# Altium integrated library TPM-SimonK_INTLIB.IntLib: 68 symbols (part 2 of 2)
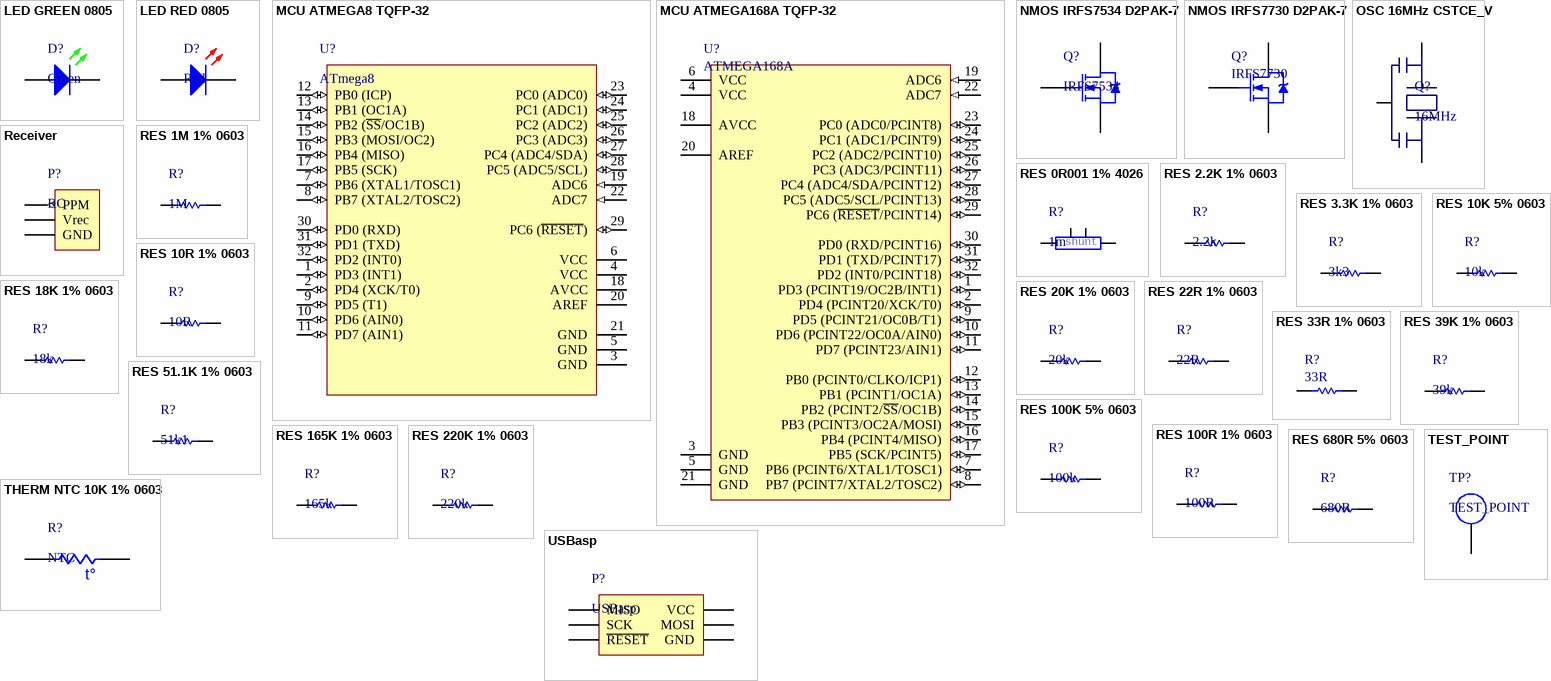
[diagram p2: symbols LED GREEN 0805 to USBasp]

## MCU ATMEGA168A TQFP-32
designator U?, comment ATMEGA168A
8-bit Microcontrollers - MCU AVR 16KB FL 512B EE 1KB SRAM-20MHz; Manufacturer: Atmel; Manufacturer Part Number: ATMEGA168A-AUR; Program Memory Type: Flash; Data RAM Type: SRAM; Data ROM Type: EEPROM; Interface Type: 2-Wire Serial, SPI, USART; Number of I/Os: 23 I/O; ADC Resolution: 10 bit; Data Bus Width: 8 bit; Maximum Clock Frequency: 20 MHz; Number of ADC Channels: 8; Number of Timers/Counters: 3 Timer; Operating Supply Voltage: 1.8 V to 5.5 V; Processor Series: megaAVR; Supply Voltage - Max: 5.5 V; Supply Voltage - Min: 1.8 V; Supplier 1: Mouser; RoHS: RoHS Compliant; Category: 8-bit Microcontrollers - MCU; Stock 1: 2243; Pricing 1: 1=2.84, 10=2.54, 25=2.28, 50=2.14, 100=2.08, 250=1.88, 500=1.68, 1000=1.42, 2000=1.40 (USD); Package / Case: TQFP-32; Packaging: Reel; Product: MCU; Series: ATMEGA 168A; Brand: Atmel; Data RAM Size: 1 kB; Data ROM Size: 512 B; Mounting Style: SMD/SMT; Program Memory Size: 16 kB; Core: AVR; Maximum Operating Temperature: + 85 C; Minimum Operating Temperature: - 40 C; Standard Pack Qty: 2000; Tradename: ATMEGA; RoHS - Mouser: Y; Minimum Order Quantity: 1; Reeling: True; ComponentLink1URL: http://www.mouser.com/ds/2/36/atmel-8271-8-bit-avr-microcontroller-atmega48a-48p-365589.pdf; ComponentLink1Description: http://www.mouser.com/ds/2/36/atmel-8271-8-bit-avr-microcontroller-atmega48a-48p-365589.pdf; Supplier Part Number 1: 556-ATMEGA168A-AUR
footprint TQFP32 0.8MM
pins: 1 PD3 (PCINT19/OC2B/INT1) (io), 2 PD4 (PCINT20/XCK/T0) (io), 3 GND (power), 4 VCC (power), 5 GND (power), 6 VCC (power), 7 PB6 (PCINT6/XTAL1/TOSC1) (io), 8 PB7 (PCINT7/XTAL2/TOSC2) (io), 9 PD5 (PCINT21/OC0B/T1) (io), 10 PD6 (PCINT22/OC0A/AIN0) (io), 11 PD7 (PCINT23/AIN1) (io), 12 PB0 (PCINT0/CLKO/ICP1) (io), 13 PB1 (PCINT1/OC1A) (io), 14 PB2 (PCINT2/~{SS}/OC1B) (io), 15 PB3 (PCINT3/OC2A/MOSI) (io), 16 PB4 (PCINT4/MISO) (io), 17 PB5 (SCK/PCINT5) (io), 18 AVCC (power), 19 ADC6 (in), 20 AREF, 21 GND (power), 22 ADC7 (in), 23 PC0 (ADC0/PCINT8) (io), 24 PC1 (ADC1/PCINT9) (io), 25 PC2 (ADC2/PCINT10) (io), 26 PC3 (ADC3/PCINT11) (io), 27 PC4 (ADC4/SDA/PCINT12) (io), 28 PC5 (ADC5/SCL/PCINT13) (io), 29 PC6 (~{RESET}/PCINT14) (io), 30 PD0 (RXD/PCINT16) (io), 31 PD1 (TXD/PCINT17) (io), 32 PD2 (INT0/PCINT18) (io)

## NMOS IRFS7534 D2PAK-7
designator Q?, comment IRFS7534
MOSFET MOSFET N CH 60V 240A D2PAK; Manufacturer: International Rectifier; Manufacturer Part Number: IRFS7534TRL7PP; Configuration: Single; Forward Transconductance - Min: 190 S; Transistor Polarity: N-Channel; Fall Time: 86 ns; Pd - Power Dissipation: 290 W; Qg - Gate Charge: 200 nC; Rds On - Drain-Source Resistance: 1.6 mOhms; Rise Time: 120 ns; Typical Turn-Off Delay Time: 195 ns; Typical Turn-On Delay Time: 140 ns; Vgs - Gate-Source Breakdown Voltage: 20 V; Vgs th - Gate-Source Threshold Voltage: 3.7 V; Product Status: New at Mouser; Supplier 1: Mouser; RoHS: RoHS Compliant; Category: MOSFET; Stock 1: 712; Pricing 1: 1=3.63, 10=2.92, 100=2.66, 250=2.40, 500=2.15 (USD); Package / Case: D2PAK-7; Packaging: Reel; Brand: International Rectifier; Mounting Style: SMD/SMT; Id - Continuous Drain Current: 240 A; Maximum Operating Temperature: + 175 C; Minimum Operating Temperature: - 55 C; Product Category: Power MOSFET Transistors; Standard Pack Qty: 800; Vds - Drain-Source Breakdown Voltage: 60 V; RoHS - Mouser: Y; Minimum Order Quantity: 1; Reeling: True; ComponentLink1URL: http://www.mouser.com/ds/2/200/irfs7534-7ppbf-315847.pdf; ComponentLink1Description: http://www.mouser.com/ds/2/200/irfs7534-7ppbf-315847.pdf; Supplier Part Number 1: 942-IRFS7534TRL7PP
footprint TO-263-7 (D2PAK-7)
pins: D, G, S

## NMOS IRFS7730 D2PAK-7
designator Q?, comment IRFS7730
MOSFET 75V Single N-Channel HEXFET Power; Manufacturer: International Rectifier; Manufacturer Part Number: IRFS7730PBF; Forward Transconductance - Min: 249 S; Channel Mode: Enhancement; Fall Time: 115 ns; Id - Continuous Drain Current: 195 A; Pd - Power Dissipation: 375 W; Qg - Gate Charge: 271 nC; Rds On - Drain-Source Resistance: 2.6 mOhms; Rise Time: 120 ns; Typical Turn-Off Delay Time: 180 ns; Typical Turn-On Delay Time: 21 ns; Vgs - Gate-Source Voltage: 20 V; Vgs th - Gate-Source Threshold Voltage: 3.7 V; Product Status: New at Mouser; Supplier 1: Mouser; RoHS: RoHS Compliant; Category: MOSFET; Stock 1: 1049; Pricing 1: 1=3.50, 10=2.81, 100=2.56, 250=2.31, 500=2.07, 1000=1.74, 2500=1.66, 5000=1.52 (USD); Configuration: Single; Package / Case: D-PAK-3; Packaging: Tube; Brand: International Rectifier; Mounting Style: SMD/SMT; Transistor Polarity: N-Channel; Maximum Operating Temperature: + 175 C; Minimum Operating Temperature: - 55 C; Vds - Drain-Source Breakdown Voltage: 75 V; RoHS - Mouser: Y; Minimum Order Quantity: 1; Reeling: False; ComponentLink1URL: http://www.mouser.com/ds/2/200/irfs7730pbf-371349.pdf; ComponentLink1Description: http://www.mouser.com/ds/2/200/irfs7730pbf-371349.pdf; Supplier Part Number 1: 942-IRFS7730PBF
footprint TO-263-7 (D2PAK-7)
pins: D, G, S

## OSC 16MHz CSTCE_V
designator Q?, comment 16MHz
Resonators 16.00MHZ .5% CHIP RESONATOR; Manufacturer: Murata Electronics; Manufacturer Part Number: CSTCE16M0V53ZW-R0; Tolerance: 0.5 %; Type: Small-cap Chip Type; Supplier 1: Mouser; RoHS: RoHS Compliant; Category: Resonators; Stock 1: 17263; Pricing 1: 1=0.42, 10=0.28, 100=0.266, 1000=0.224 (USD); Frequency: 16 MHz; Packaging: Reel; Series: CST; Termination Style: SMD/SMT; Brand: Murata Electronics; Product Category: Ceramic Resonators, SMD; Standard Pack Qty: 3000; Tradename: CERALOCK; RoHS - Mouser: Y; Minimum Order Quantity: 1; Reeling: True; ComponentLink1URL: http://www.murata.com/~/media/webrenewal/support/library/catalog/products/timingdevice/ceralock/p16e.ashx; ComponentLink1Description: http://www.murata.com/~/media/webrenewal/support/library/catalog/products/timingdevice/ceralock/p16e.ashx; Supplier Part Number 1: 81-CSTCE16M0V53ZW-R0
footprint CSTCE_V
pins: 1, 2 GND, 3 10

## Receiver
designator P?, comment RC
Headers & Wire Housings 40Pin 2mm Spacing Single Row Hdrs, 5pc; Manufacturer: Cromax; Manufacturer Part Number: IMP10327; Mounting Angle: Vertical; Number of Positions: 40 Position; Pitch: 2.54 mm; Supplier 1: Mult Comercial; RoHS: RoHS Compliant; Category: Headers & Wire Housings; Stock 1: 14; Pricing 1: 1=1.00, 5=0.20 (BRL); Accessory Type: -; Contact Plating: Gold; Contact Type: -; Number of Rows: 1 Row; Product: Headers; Termination Style: Through Hole; Type: Breakaway; Brand: Cromax; Mounting Style: Straight Pin; Row Spacing: -; Contact Gender: Pin (Male); Product Category: Accessories; RoHS - Mouser: Y; Minimum Order Quantity: 1; Reeling: False; ComponentLink1URL: http://loja.multcomercial.com.br/barra-de-pinos-simples-1x40-macho-bmo40-1e.html; ComponentLink1Description: http://loja.multcomercial.com.br/barra-de-pinos-simples-1x40-macho-bmo40-1e.html; Supplier Part Number 1: Barra de Pinos Simples 1x40 Macho BMO40-1E
footprint MODU 2.54MM - 1x3 - CABLE (MODU (2.54MM) - 1x3)
pins: 1 PPM (out), 2 Vrec (power), 3 GND (power)

## RES 0R001 1% 4026
designator R?, comment 1m
Current Sense Resistors - SMD 7watt 0.001ohm 1%; Manufacturer: Vishay / Dale; Manufacturer Part Number: WSLP40261L000FEA; Power Rating: 7 W; Resistance: 0.001 Ohms; Temperature Coefficient: 75 PPM / C; Product Status: New at Mouser; Supplier 1: Mouser; RoHS: RoHS Compliant; Category: Current Sense Resistors - SMD; Stock 1: 1363; Pricing 1: 1=2.82, 50=2.39, 100=1.95, 500=1.73, 1000=1.56 (USD); Height: 3 mm; Length: 10.1 mm; Operating Temperature Range: - 65 C to + 170 C; Package / Case: 4026 (10166 metric); Packaging: Reel; Product: 4 Terminal; Series: WSLP4026; Technology: Metal Element; Termination Style: SMD/SMT; Tolerance: 1 %; Type: Power Metal Strip Resistor Very High Power Low Value; Width: 6.6 mm; Brand: Vishay / Dale; Case Code - in: 4026; Case Code - mm: 10166; Product Category: SMD Power Metal Strip/Current Sensing Resistors; Termination: 4 Terminal; Tradename: Power Metal Strip; RoHS - Mouser: Y; Minimum Order Quantity: 1; Reeling: True; ComponentLink1URL: http://www.mouser.com/ds/2/427/wslp4026-240560.pdf; ComponentLink1Description: http://www.mouser.com/ds/2/427/wslp4026-240560.pdf; Supplier Part Number 1: 71-WSLP40261L000FEA
footprint RES SHUNT 4026
pins: 1, 2, 3, 4
text: shunt

## RES 1M 1% 0603
designator R?, comment 1M
Thick Film Resistors - SMD 0603 1Mohms 1% Tol; Manufacturer: Panasonic; Manufacturer Part Number: ERJ-3EKF1004V; Power Rating: 100 mW; Temperature Coefficient: 100 PPM / C; Voltage Rating: 75 V; Supplier 1: Mouser; RoHS: RoHS Compliant By Exemption; Category: Thick Film Resistors - SMD; Stock 1: 422974; Pricing 1: 1=0.10, 10=0.014, 100=0.009, 500=0.007, 1000=0.004 (USD); Height: 0.45 mm; Length: 1.6 mm; Operating Temperature Range: - 55 C to + 155 C; Package / Case: 0603 (1608 metric); Packaging: Reel; Product: Thick Film Resistors SMD; Resistance: 1 MOhms; Series: ERJ; Termination Style: SMD/SMT; Tolerance: 1 %; Type: Precision Thick Film Resistors SMD; Width: 0.8 mm; Brand: Panasonic; Case Code - in: 0603; Case Code - mm: 1608; Standard Pack Qty: 5000; RoHS - Mouser: E; Minimum Order Quantity: 1; Reeling: True; ComponentLink1URL: http://www.mouser.com/ds/2/315/AOA0000CE2-37512.pdf; ComponentLink1Description: http://www.mouser.com/ds/2/315/AOA0000CE2-37512.pdf; Supplier Part Number 1: 667-ERJ-3EKF1004V
footprint RES TFC 0603
pins: 1, 2

## RES 2.2K 1% 0603
designator R?, comment 2.2k
Thick Film Resistors - SMD 0603 2.2Kohms 1% Tol; Manufacturer: Panasonic; Manufacturer Part Number: ERJ-3EKF2201V; Power Rating: 100 mW; Temperature Coefficient: 100 PPM / C; Voltage Rating: 75 V; Supplier 1: Mouser; RoHS: RoHS Compliant By Exemption; Category: Thick Film Resistors - SMD; Stock 1: 231411; Pricing 1: 1=0.10, 10=0.014, 100=0.009, 500=0.007, 1000=0.004 (USD); Height: 0.45 mm; Length: 1.6 mm; Operating Temperature Range: - 55 C to + 155 C; Package / Case: 0603 (1608 metric); Packaging: Reel; Product: Thick Film Resistors SMD; Resistance: 2.2 kOhms; Series: ERJ; Termination Style: SMD/SMT; Tolerance: 1 %; Type: Precision Thick Film Resistors SMD; Width: 0.8 mm; Brand: Panasonic; Case Code - in: 0603; Case Code - mm: 1608; Standard Pack Qty: 5000; RoHS - Mouser: E; Minimum Order Quantity: 1; Reeling: True; ComponentLink1URL: http://www.mouser.com/ds/2/315/AOA0000CE2-37512.pdf; ComponentLink1Description: http://www.mouser.com/ds/2/315/AOA0000CE2-37512.pdf; Supplier Part Number 1: 667-ERJ-3EKF2201V
footprint RES TFC 0603
pins: 1, 2

## RES 3.3K 1% 0603
designator R?, comment 3k3
Thick Film Resistors - SMD 0603 3.3Kohms 1% Tol; Manufacturer: Panasonic; Manufacturer Part Number: ERJ-3EKF3301V; Power Rating: 100 mW; Temperature Coefficient: 100 PPM / C; Voltage Rating: 75 V; Supplier 1: Mouser; RoHS: RoHS Compliant By Exemption; Category: Thick Film Resistors - SMD; Stock 1: 134123; Pricing 1: 1=0.10, 10=0.015, 100=0.008, 500=0.006, 1000=0.004 (USD); Height: 0.45 mm; Length: 1.6 mm; Operating Temperature Range: - 55 C to + 155 C; Package / Case: 0603 (1608 metric); Packaging: Reel; Product: Thick Film Resistors SMD; Resistance: 3.3 kOhms; Series: ERJ; Termination Style: SMD/SMT; Tolerance: 1 %; Type: Precision Thick Film Resistors SMD; Width: 0.8 mm; Brand: Panasonic; Case Code - in: 0603; Case Code - mm: 1608; Standard Pack Qty: 5000; RoHS - Mouser: E; Minimum Order Quantity: 1; Reeling: True; ComponentLink1URL: http://www.mouser.com/ds/2/315/AOA0000CE2-37512.pdf; ComponentLink1Description: http://www.mouser.com/ds/2/315/AOA0000CE2-37512.pdf; Supplier Part Number 1: 667-ERJ-3EKF3301V
footprint RES TFC 0603
pins: 1, 2

## RES 10K 5% 0603
designator R?, comment 10k
Thick Film Resistors - SMD 0603 10Kohms 5% Tol; Manufacturer: Panasonic; Manufacturer Part Number: ERJ-3GEYJ103V; Power Rating: 100 mW; Temperature Coefficient: 200 PPM / C; Voltage Rating: 75 V; Case Height: 0.45 mm; Case Length: 1.6 mm; Case Width: 0.8 mm; Supplier 1: Mouser; RoHS: RoHS Compliant By Exemption; Category: Thick Film Resistors - SMD; Stock 1: 1329607; Pricing 1: 1=0.10, 10=0.012, 100=0.008, 500=0.006, 1000=0.003 (USD); Operating Temperature Range: - 55 C to + 155 C; Package / Case: 0603 (1608 metric); Packaging: Reel; Product: Thick Film Resistors SMD; Resistance: 10 kOhms; Series: ERJ; Tolerance: 5 %; Type: Thick Film Resistors SMD; Brand: Panasonic; Case Code - in: 0603; Case Code - mm: 1608; Standard Pack Qty: 5000; RoHS - Mouser: E; Minimum Order Quantity: 1; Reeling: True; ComponentLink1URL: http://www.mouser.com/ds/2/315/panasonic_erj_Gseries-586692.pdf; ComponentLink1Description: http://www.mouser.com/ds/2/315/panasonic_erj_Gseries-586692.pdf; Supplier Part Number 1: 667-ERJ-3GEYJ103V; Value: 10k
footprint RES TFC 0603
pins: 1, 2

## RES 10R 1% 0603
designator R?, comment 10R
Thick Film Resistors - SMD 0603 10.0ohms 1% Tol; Manufacturer: Panasonic; Manufacturer Part Number: ERJ-3EKF10R0V; Power Rating: 100 mW; Resistance: 10 Ohms; Voltage Rating: 75 V; Supplier 1: Mouser; RoHS: RoHS Compliant By Exemption; Category: Thick Film Resistors - SMD; Stock 1: 419846; Pricing 1: 1=0.10, 10=0.014, 100=0.007, 1000=0.004 (USD); Height: 0.45 mm; Length: 1.6 mm; Operating Temperature Range: - 55 C to + 155 C; Package / Case: 0603 (1608 metric); Packaging: Reel; Product: Thick Film Resistors SMD; Series: ERJ; Termination Style: SMD/SMT; Tolerance: 1 %; Type: Precision Thick Film Resistors SMD; Width: 0.8 mm; Brand: Panasonic; Case Code - in: 0603; Case Code - mm: 1608; Standard Pack Qty: 5000; RoHS - Mouser: E; Minimum Order Quantity: 1; Reeling: True; ComponentLink1URL: http://www.mouser.com/ds/2/315/AOA0000CE2-37512.pdf; ComponentLink1Description: http://www.mouser.com/ds/2/315/AOA0000CE2-37512.pdf; Supplier Part Number 1: 667-ERJ-3EKF10R0V
footprint RES TFC 0603
pins: 1, 2

## RES 18K 1% 0603
designator R?, comment 18k
Thick Film Resistors - SMD 0603 18Kohms 1% Tol; Manufacturer: Panasonic; Manufacturer Part Number: ERJ-3EKF1802V; Power Rating: 100 mW; Temperature Coefficient: 100 PPM / C; Voltage Rating: 75 V; Supplier 1: Mouser; RoHS: RoHS Compliant By Exemption; Category: Thick Film Resistors - SMD; Stock 1: 113144; Pricing 1: 1=0.10, 10=0.015, 100=0.008, 500=0.006, 1000=0.004 (USD); Height: 0.45 mm; Length: 1.6 mm; Operating Temperature Range: - 55 C to + 155 C; Package / Case: 0603 (1608 metric); Packaging: Reel; Product: Thick Film Resistors SMD; Resistance: 18 kOhms; Series: ERJ; Termination Style: SMD/SMT; Tolerance: 1 %; Type: Precision Thick Film Resistors SMD; Width: 0.8 mm; Brand: Panasonic; Case Code - in: 0603; Case Code - mm: 1608; Standard Pack Qty: 5000; RoHS - Mouser: E; Minimum Order Quantity: 1; Reeling: True; ComponentLink1URL: http://www.mouser.com/ds/2/315/AOA0000CE2-37512.pdf; ComponentLink1Description: http://www.mouser.com/ds/2/315/AOA0000CE2-37512.pdf; Supplier Part Number 1: 667-ERJ-3EKF1802V
footprint RES TFC 0603
pins: 1, 2

## RES 20K 1% 0603
designator R?, comment 20k
Thick Film Resistors - SMD 0603 20Kohms 1% Tol; Manufacturer: Panasonic; Manufacturer Part Number: ERJ-3EKF2002V; Power Rating: 100 mW; Temperature Coefficient: 100 PPM / C; Voltage Rating: 75 V; Supplier 1: Mouser; RoHS: RoHS Compliant By Exemption; Category: Thick Film Resistors - SMD; Stock 1: 396529; Pricing 1: 1=0.10, 10=0.014, 100=0.009, 500=0.007, 1000=0.004 (USD); Height: 0.45 mm; Length: 1.6 mm; Operating Temperature Range: - 55 C to + 155 C; Package / Case: 0603 (1608 metric); Packaging: Reel; Product: Thick Film Resistors SMD; Resistance: 20 kOhms; Series: ERJ; Termination Style: SMD/SMT; Tolerance: 1 %; Type: Precision Thick Film Resistors SMD; Width: 0.8 mm; Brand: Panasonic; Case Code - in: 0603; Case Code - mm: 1608; Standard Pack Qty: 5000; RoHS - Mouser: E; Minimum Order Quantity: 1; Reeling: True; ComponentLink1URL: http://www.mouser.com/ds/2/315/AOA0000CE2-37512.pdf; ComponentLink1Description: http://www.mouser.com/ds/2/315/AOA0000CE2-37512.pdf; Supplier Part Number 1: 667-ERJ-3EKF2002V
footprint RES TFC 0603
pins: 1, 2

## RES 22R 1% 0603
designator R?, comment 22R
Thick Film Resistors - SMD 0603 22.0ohms 1% Tol; Manufacturer: Panasonic; Manufacturer Part Number: ERJ-3EKF22R0V; Power Rating: 100 mW; Resistance: 22 Ohms; Temperature Coefficient: 100 PPM / C; Voltage Rating: 75 V; Supplier 1: Mouser; RoHS: RoHS Compliant By Exemption; Category: Thick Film Resistors - SMD; Stock 1: 108656; Pricing 1: 1=0.10, 10=0.015, 100=0.008, 500=0.006, 1000=0.004 (USD); Height: 0.45 mm; Length: 1.6 mm; Operating Temperature Range: - 55 C to + 155 C; Package / Case: 0603 (1608 metric); Packaging: Reel; Product: Thick Film Resistors SMD; Series: ERJ; Termination Style: SMD/SMT; Tolerance: 1 %; Type: Precision Thick Film Resistors SMD; Width: 0.8 mm; Brand: Panasonic; Case Code - in: 0603; Case Code - mm: 1608; Standard Pack Qty: 5000; RoHS - Mouser: E; Minimum Order Quantity: 1; Reeling: True; ComponentLink1URL: http://www.mouser.com/ds/2/315/AOA0000CE2-37512.pdf; ComponentLink1Description: http://www.mouser.com/ds/2/315/AOA0000CE2-37512.pdf; Supplier Part Number 1: 667-ERJ-3EKF22R0V
footprint RES TFC 0603
pins: 1, 2

## RES 33R 1% 0603
designator R?, comment 33R
Thick Film Resistors - SMD 0603 33ohms 5% Tol; Manufacturer: Panasonic; Manufacturer Part Number: ERJ-3GEYJ330V; Power Rating: 100 mW; Temperature Coefficient: 200 PPM / C; Voltage Rating: 75 V; Supplier 1: Mouser; RoHS: RoHS Compliant By Exemption; Category: Thick Film Resistors - SMD; Stock 1: 220980; Pricing 1: 1=0.10, 10=0.012, 100=0.006, 1000=0.003 (USD); Height: 0.45 mm; Length: 1.6 mm; Operating Temperature Range: - 55 C to + 155 C; Package / Case: 0603 (1608 metric); Packaging: Reel; Product: Thick Film Resistors SMD; Resistance: 33 Ohms; Series: ERJ; Termination Style: SMD/SMT; Tolerance: 5 %; Type: Thick Film Resistors SMD; Width: 0.8 mm; Brand: Panasonic; Case Code - in: 0603; Case Code - mm: 1608; Standard Pack Qty: 5000; RoHS - Mouser: E; Minimum Order Quantity: 1; Reeling: True; ComponentLink1URL: http://www.mouser.com/ds/2/315/AOA0000CE1-37422.pdf; ComponentLink1Description: http://www.mouser.com/ds/2/315/AOA0000CE1-37422.pdf; Supplier Part Number 1: 667-ERJ-3GEYJ330V
footprint RES TFC 0603
pins: 1, 2

## RES 39K 1% 0603
designator R?, comment 39k
Thick Film Resistors - SMD 0603 39Kohms 1% Tol; Manufacturer: Panasonic; Manufacturer Part Number: ERJ-3EKF3902V; Power Rating: 100 mW; Temperature Coefficient: 100 PPM / C; Voltage Rating: 75 V; Supplier 1: Mouser; RoHS: RoHS Compliant By Exemption; Category: Thick Film Resistors - SMD; Stock 1: 47752; Pricing 1: 1=0.10, 10=0.014, 100=0.009, 500=0.007, 1000=0.004 (USD); Height: 0.45 mm; Length: 1.6 mm; Operating Temperature Range: - 55 C to + 155 C; Package / Case: 0603 (1608 metric); Packaging: Reel; Product: Thick Film Resistors SMD; Resistance: 39 kOhms; Series: ERJ; Termination Style: SMD/SMT; Tolerance: 1 %; Type: Precision Thick Film Resistors SMD; Width: 0.8 mm; Brand: Panasonic; Case Code - in: 0603; Case Code - mm: 1608; Standard Pack Qty: 5000; RoHS - Mouser: E; Minimum Order Quantity: 1; Reeling: True; ComponentLink1URL: http://www.mouser.com/ds/2/315/AOA0000CE2-37512.pdf; ComponentLink1Description: http://www.mouser.com/ds/2/315/AOA0000CE2-37512.pdf; Supplier Part Number 1: 667-ERJ-3EKF3902V
footprint RES TFC 0603
pins: 1, 2

## RES 51.1K 1% 0603
designator R?, comment 51k1
Thin Film Resistors - SMD .1W 51.1Kohm 1% 0603 50ppm Auto; Manufacturer: Vishay / Beyschlag; Manufacturer Part Number: MCT06030C5112FP500; Power Rating: 100 mW; Resistance: 51.1 kOhms; Temperature Coefficient: 50 PPM / K; Voltage Rating: 75 V; Product Status: New at Mouser; Supplier 1: Mouser; RoHS: RoHS Compliant; Category: Thin Film Resistors - SMD; Stock 1: 8943; Pricing 1: 1=0.10, 50=0.046, 100=0.035, 500=0.023 (USD); Height: 0.45 mm; Length: 1.6 mm; Operating Temperature Range: - 55 C to + 125 C; Package / Case: 0603 (1608 metric); Packaging: Reel; Product: Professional Resistors Thin Film SMD; Series: MCT0603 Professional; Termination Style: SMD/SMT; Tolerance: 1 %; Type: Professional Thin Film Chip Resistors; Width: 0.8 mm; Brand: Vishay / Beyschlag; Case Code - in: 0603; Case Code - mm: 1608; Product Category: Thin Film Flat Chip Resistor; RoHS - Mouser: Y; Minimum Order Quantity: 1; Reeling: True; ComponentLink1URL: http://www.mouser.com/ds/2/427/mcx0x0xpro-223600.pdf; ComponentLink1Description: http://www.mouser.com/ds/2/427/mcx0x0xpro-223600.pdf; Supplier Part Number 1: 594-MCT06030C5112FP5
footprint RES TFC 0603
pins: 1, 2

## RES 100K 5% 0603
designator R?, comment 100k
Thick Film Resistors - SMD 100Kohms 5%; Manufacturer: Vishay; Manufacturer Part Number: RCA0603100KJNEC; Power Rating: 100 mW; Temperature Coefficient: 200 PPM / K; Voltage Rating: 75 V; Case Height: 0.45 mm; Case Length: 1.55 mm; Case Width: 0.85 mm; Supplier 1: Mouser; RoHS: RoHS Compliant By Exemption; Category: Thick Film Resistors - SMD; Stock 1: 0; Pricing 1: 1=0.09, 10=0.062, 100=0.052, 500=0.045, 1000=0.04 (USD); Operating Temperature Range: - 55 C to + 125 C; Package / Case: 0603 (1608 metric); Packaging: Reel; Product: Thick Film Resistors SMD; Resistance: 100 kOhms; Series: RCA; Tolerance: 5 %; Type: Automotive Grade, Thick Film, Rectangular Chip Resistors; Brand: Vishay; Case Code - in: 0603; Case Code - mm: 1608; Product Category: 0603 Thick Film Chip Resistors; RoHS - Mouser: E; Minimum Order Quantity: 1; Reeling: True; ComponentLink1URL: http://www.mouser.com/ds/2/427/RCA-239686.pdf; ComponentLink1Description: http://www.mouser.com/ds/2/427/RCA-239686.pdf; Supplier Part Number 1: 71-RCA0603100KJNEC; Value: 100k
footprint RES TFC 0603
pins: 1, 2

## RES 100R 1% 0603
designator R?, comment 100R
Thick Film Resistors - SMD 1/10watts 100ohms 1%; Manufacturer: KOA Speer; Manufacturer Part Number: RK73H1JTTD1000F; Power Rating: 100 mW; Temperature Coefficient: 100 PPM / C; Voltage Rating: 50 V; Case Height: 0.45 mm; Case Length: 1.6 mm; Case Width: 0.8 mm; Supplier 1: Mouser; RoHS: RoHS Compliant By Exemption; Category: Thick Film Resistors - SMD; Stock 1: 707984; Pricing 1: 1=0.10, 10=0.015, 100=0.008, 500=0.006, 1000=0.004 (USD); Operating Temperature Range: - 55 C to + 155 C; Package / Case: 0603 (1608 metric); Packaging: Reel; Product: Thick Film Resistors SMD; Resistance: 100 Ohms; Series: RK73H; Tolerance: 1 %; Brand: KOA Speer; Case Code - in: 0603; Case Code - mm: 1608; Product Category: 0603 SMD Thick Film Chip Resistors; Standard Pack Qty: 5000; RoHS - Mouser: E; Minimum Order Quantity: 1; Reeling: True; ComponentLink1URL: http://www.mouser.com/ds/2/219/RK73H-5715.pdf; ComponentLink1Description: http://www.mouser.com/ds/2/219/RK73H-5715.pdf; Supplier Part Number 1: 660-RK73H1JTTD1000F; Value: 100R
footprint RES TFC 0603
pins: 1, 2

## RES 165K 1% 0603
designator R?, comment 165k
Thick Film Resistors - SMD 0603 165Kohms 1% Tol; Manufacturer: Panasonic; Manufacturer Part Number: ERJ-3EKF1653V; Power Rating: 100 mW; Temperature Coefficient: 100 PPM / C; Voltage Rating: 75 V; Supplier 1: Mouser; RoHS: RoHS Compliant By Exemption; Category: Thick Film Resistors - SMD; Stock 1: 120957; Pricing 1: 1=0.10, 10=0.015, 100=0.008, 500=0.006, 1000=0.004 (USD); Height: 0.45 mm; Length: 1.6 mm; Operating Temperature Range: - 55 C to + 155 C; Package / Case: 0603 (1608 metric); Packaging: Reel; Product: Thick Film Resistors SMD; Resistance: 165 kOhms; Series: ERJ; Termination Style: SMD/SMT; Tolerance: 1 %; Type: Precision Thick Film Resistors SMD; Width: 0.8 mm; Brand: Panasonic; Case Code - in: 0603; Case Code - mm: 1608; Standard Pack Qty: 5000; RoHS - Mouser: E; Minimum Order Quantity: 1; Reeling: True; ComponentLink1URL: http://www.mouser.com/ds/2/315/AOA0000CE2-37512.pdf; ComponentLink1Description: http://www.mouser.com/ds/2/315/AOA0000CE2-37512.pdf; Supplier Part Number 1: 667-ERJ-3EKF1653V
footprint RES TFC 0603
pins: 1, 2

## RES 220K 1% 0603
designator R?, comment 220k
Thick Film Resistors - SMD 0603 220Kohms 5% Tol; Manufacturer: Panasonic; Manufacturer Part Number: ERJ-3GEYJ224V; Power Rating: 100 mW; Temperature Coefficient: 200 PPM / C; Voltage Rating: 75 V; Supplier 1: Mouser; RoHS: RoHS Compliant By Exemption; Category: Thick Film Resistors - SMD; Stock 1: 118709; Pricing 1: 1=0.09, 10=0.02, 100=0.01, 500=0.006, 1000=0.003 (USD); Height: 0.45 mm; Length: 1.6 mm; Operating Temperature Range: - 55 C to + 155 C; Package / Case: 0603 (1608 metric); Packaging: Reel; Product: Thick Film Resistors SMD; Resistance: 220 kOhms; Series: ERJ; Termination Style: SMD/SMT; Tolerance: 5 %; Type: Thick Film Resistors SMD; Width: 0.8 mm; Brand: Panasonic; Case Code - in: 0603; Case Code - mm: 1608; Standard Pack Qty: 5000; RoHS - Mouser: E; Minimum Order Quantity: 1; Reeling: True; ComponentLink1URL: http://www.mouser.com/ds/2/315/AOA0000CE1-37422.pdf; ComponentLink1Description: http://www.mouser.com/ds/2/315/AOA0000CE1-37422.pdf; Supplier Part Number 1: 667-ERJ-3GEYJ224V
footprint RES TFC 0603
pins: 1, 2

## RES 680R 5% 0603
designator R?, comment 680R
Thick Film Resistors - SMD 0603 680ohms 5% Tol; Manufacturer: Panasonic; Manufacturer Part Number: ERJ-3GEYJ681V; Power Rating: 100 mW; Temperature Coefficient: 200 PPM / C; Voltage Rating: 75 V; Case Height: 0.45 mm; Case Length: 1.6 mm; Case Width: 0.8 mm; Supplier 1: Mouser; RoHS: RoHS Compliant By Exemption; Category: Thick Film Resistors - SMD; Stock 1: 164362; Pricing 1: 1=0.10, 10=0.015, 100=0.008, 500=0.006, 1000=0.004 (USD); Operating Temperature Range: - 55 C to + 155 C; Package / Case: 0603 (1608 metric); Packaging: Reel; Product: Thick Film Resistors SMD; Resistance: 680 Ohms; Series: ERJ; Tolerance: 5 %; Type: Thick Film Resistors SMD; Brand: Panasonic; Case Code - in: 0603; Case Code - mm: 1608; Standard Pack Qty: 5000; RoHS - Mouser: E; Minimum Order Quantity: 1; Reeling: True; ComponentLink1URL: http://www.mouser.com/ds/2/315/panasonic_erj_Gseries-586692.pdf; ComponentLink1Description: http://www.mouser.com/ds/2/315/panasonic_erj_Gseries-586692.pdf; Supplier Part Number 1: 667-ERJ-3GEYJ681V; Value: 680R
footprint RES TFC 0603
pins: 1, 2

## TEST_POINT
designator TP?
PCB Test Point
footprint TEST_POINT
pins: 1 TP

## THERM NTC 10K 1% 0603
designator R?, comment NTC
NTC Thermistors 10K OHM 1%; Manufacturer: Murata Electronics; Manufacturer Part Number: NCP18XH103F03RB; Current Rating: 0.31 mA; Power Rating: 100 mW; Resistance: 10 kOhms; B Parameter: 3380 K; Supplier 1: Mouser; RoHS: RoHS Compliant; Category: NTC Thermistors; Stock 1: 42873; Pricing 1: 1=0.23, 10=0.144, 100=0.108, 1000=0.093, 2500=0.08 (USD); Height: 0.8 mm; Length: 1.6 mm; Operating Temperature Range: - 40 C to + 125 C; Package / Case: 0603; Packaging: Reel; Series: NCP; Termination Style: SMD/SMT; Tolerance: 1 %; Type: NTC; Width: 0.8 mm; Brand: Murata Electronics; Product Category: NTC Thermistors; Standard Pack Qty: 4000; RoHS - Mouser: Y; Minimum Order Quantity: 1; Reeling: True; ComponentLink1URL: http://www.mouser.com/ds/2/281/r44e-522712.pdf; ComponentLink1Description: http://www.mouser.com/ds/2/281/r44e-522712.pdf; Supplier Part Number 1: 81-NCP18XH103F03RB
footprint THERM NTC 0603
pins: 1, 2
text: t°

## USBasp
designator P?
Headers & Wire Housings 80Pin 2mm Spacing Single Row Hdrs, 5pc; Manufacturer: Cromax; Manufacturer Part Number: PR00004421; Mounting Angle: Vertical; Number of Positions: 80 Position; Pitch: 2.54 mm; Supplier 1: Mult Comercial; RoHS: RoHS Compliant; Category: Headers & Wire Housings; Stock 1: 14; Pricing 1: 1=5.60, 5=1.12 (BRL); Accessory Type: -; Contact Plating: Gold; Contact Type: -; Number of Rows: 2 Row; Product: Headers; Termination Style: Through Hole; Type: Breakaway; Brand: Cromax; Mounting Style: Straight Pin; Row Spacing: -; Contact Gender: Pin (Male); Product Category: Accessories; RoHS - Mouser: Y; Minimum Order Quantity: 1; Reeling: False; ComponentLink1URL: http://loja.multcomercial.com.br/barra-de-pinos-duplos-2x40-macho-bma040-2e.html; ComponentLink1Description: http://loja.multcomercial.com.br/barra-de-pinos-duplos-2x40-macho-bma040-2e.html; Supplier Part Number 1: Barra de Pinos Duplos 2x40 Macho BMA040-2E
footprint MODU 2.54MM - 2x3 - HEADER
footprint MODU 2.54MM - 2x3 - EDGE
pins: 1 ~{RESET}, 2 SCK, 3 MISO, 4 VCC (power), 5 MOSI, 6 GND (power)